# EAGLE library part 29F800 (library jason-test)
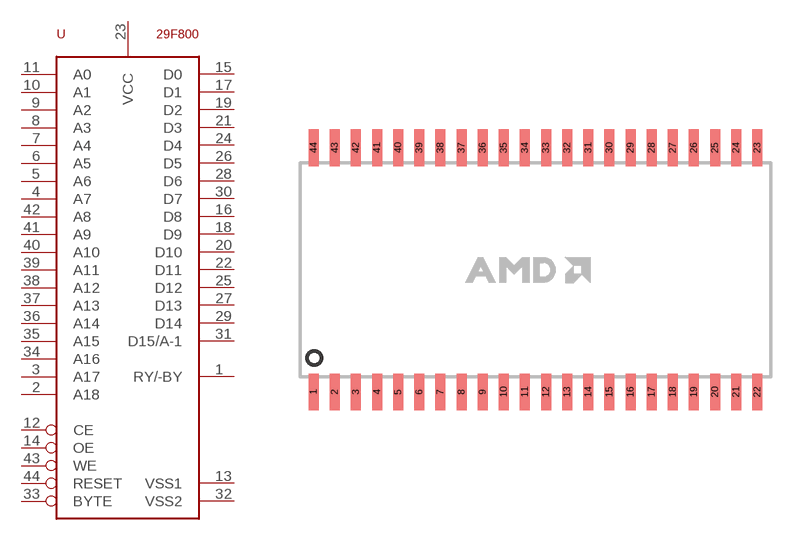
[diagram p15: symbol with the pads of SO44; footprint SO44]

Designator prefix -

## 29F800  [SO44]
1  RY/-BY  out
2  A18  in
3  A17  in
4  A7  in
5  A6  in
6  A5  in
7  A4  in
8  A3  in
9  A2  in
10  A1  in
11  A0  in
12  CE  in
13  VSS1  pwr
14  OE  in
15  D0  hiz
16  D8  hiz
17  D1  hiz
18  D9  hiz
19  D2  hiz
20  D10  hiz
21  D3  hiz
22  D11  hiz
23  VCC  pwr
24  D4  hiz
25  D12  hiz
26  D5  hiz
27  D13  hiz
28  D6  hiz
29  D14  hiz
30  D7  hiz
31  D15/A-1  hiz
32  VSS2  pwr
33  BYTE  in
34  A16  in
35  A15  in
36  A14  in
37  A13  in
38  A12  in
39  A11  in
40  A10  in
41  A9  in
42  A8  in
43  WE  in
44  RESET  in

## Footprint SO44 (pad centres in mm)
Small Outline Package
smd 0.6 x 2.2: 1 -13.335,-7.34; 2 -12.065,-7.34; 3 -10.795,-7.34; 4 -9.525,-7.34; 5 -8.255,-7.34; 6 -6.985,-7.34; 7 -5.715,-7.34; 8 -4.445,-7.34; 9 -3.175,-7.34; 10 -1.905,-7.34; 11 -0.635,-7.34; 12 0.635,-7.34; 13 1.905,-7.34; 14 3.175,-7.34; 15 4.445,-7.34; 16 5.715,-7.34; 17 6.985,-7.34; 18 8.255,-7.34; 19 9.525,-7.34; 20 10.795,-7.34; 21 12.065,-7.34; 22 13.335,-7.34; 23 13.335,7.34; 24 12.065,7.34; 25 10.795,7.34; 26 9.525,7.34; 27 8.255,7.34; 28 6.985,7.34; 29 5.715,7.34; 30 4.445,7.34; 31 3.175,7.34; 32 1.905,7.34; 33 0.635,7.34; 34 -0.635,7.34; 35 -1.905,7.34; 36 -3.175,7.34; 37 -4.445,7.34; 38 -5.715,7.34; 39 -6.985,7.34; 40 -8.255,7.34; 41 -9.525,7.34; 42 -10.795,7.34; 43 -12.065,7.34; 44 -13.335,7.34